# EAGLE library part 2X07 (library pimoroni-connectors)
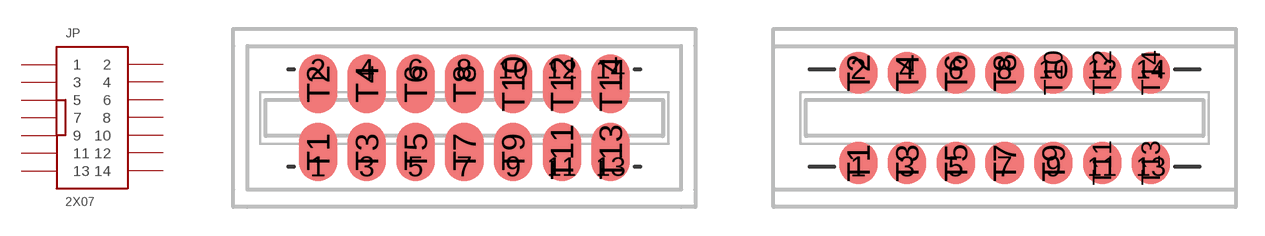
[diagram p16: symbol with the pads of 2X07_EDGE; footprints 2X07_EDGE, 2X07_EDGE_SMALL_PADS]

Designator prefix JP

## 2X07  [2X07_EDGE]
1  1
2  2
3  3
4  4
5  5
6  6
7  7
8  8
9  9
10  10
11  11
12  12
13  13
14  14
T1  1
T2  2
T3  3
T4  4
T5  5
T6  6
T7  7
T8  8
T9  9
T10  10
T11  11
T12  12
T13  13
T14  14

## 2X07SMALL_PADS  [2X07_EDGE_SMALL_PADS]
Pads as for 2X07_EDGE

## Footprint 2X07_EDGE (pad centres in mm)
drill 1: 1 -7.62,-2.54; 2 -7.62,2.54; 3 -5.08,-2.54; 4 -5.08,2.54; 5 -2.54,-2.54; 6 -2.54,2.54; 7 0,-2.54; 8 0,2.54; 9 2.54,-2.54; 10 2.54,2.54; 11 5.08,-2.54; 12 5.08,2.54; 13 7.62,-2.54; 14 7.62,2.54
smd 2 x 3.05: T1 -7.62,-1.775; T2 -7.62,1.775; T3 -5.08,-1.775; T4 -5.08,1.775; T5 -2.54,-1.775; T6 -2.54,1.775; T7 0,-1.775; T8 0,1.775; T9 2.54,-1.775; T10 2.54,1.775; T11 5.08,-1.775; T12 5.08,1.775; T13 7.62,-1.775; T14 7.62,1.775

## Footprint 2X07_EDGE_SMALL_PADS (pad centres in mm)
drill 1: 1 -7.62,-2.54; 2 -7.62,2.54; 3 -5.08,-2.54; 4 -5.08,2.54; 5 -2.54,-2.54; 6 -2.54,2.54; 7 0,-2.54; 8 0,2.54; 9 2.54,-2.54; 10 2.54,2.54; 11 5.08,-2.54; 12 5.08,2.54; 13 7.62,-2.54; 14 7.62,2.54
smd 2 x 2.2: T1 -7.62,-2.35; T2 -7.62,2.35; T3 -5.08,-2.35; T4 -5.08,2.35; T5 -2.54,-2.35; T6 -2.54,2.35; T7 0,-2.35; T8 0,2.35; T9 2.54,-2.35; T10 2.54,2.35; T11 5.08,-2.35; T12 5.08,2.35; T13 7.62,-2.35; T14 7.62,2.35